# EAGLE library part DD1B030HA1 (library brandonsmith)
DDP1B030HA1 30 Pin Connector
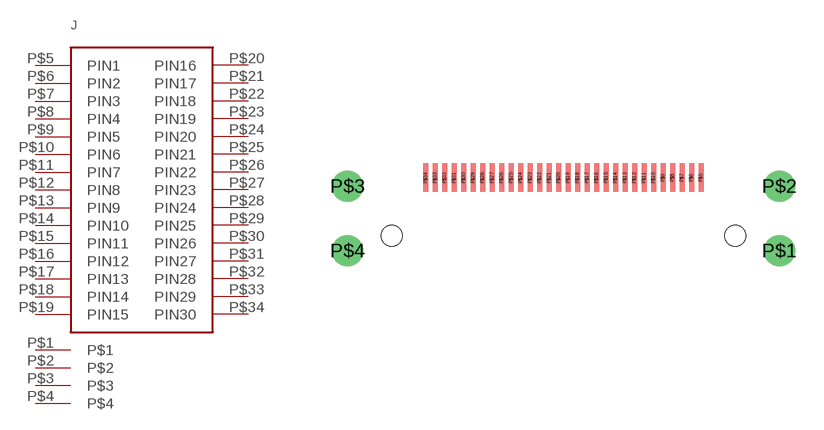
[diagram p0: symbol with the pads of DD1B030HA1; footprint DD1B030HA1]

Designator prefix J

## DD1B030HA1  [DD1B030HA1]
P$1  P$1
P$2  P$2
P$3  P$3
P$4  P$4
P$5  PIN1
P$6  PIN2
P$7  PIN3
P$8  PIN4
P$9  PIN5
P$10  PIN6
P$11  PIN7
P$12  PIN8
P$13  PIN9
P$14  PIN10
P$15  PIN11
P$16  PIN12
P$17  PIN13
P$18  PIN14
P$19  PIN15
P$20  PIN16
P$21  PIN17
P$22  PIN18
P$23  PIN19
P$24  PIN20
P$25  PIN21
P$26  PIN22
P$27  PIN23
P$28  PIN24
P$29  PIN25
P$30  PIN26
P$31  PIN27
P$32  PIN28
P$33  PIN29
P$34  PIN30

## Footprint DD1B030HA1 (pad centres in mm)
drill 1.1: P$1 2.325,-0.8; P$2 2.325,2.6; P$3 -20.425,2.6; P$4 -20.425,-0.8
smd 0.26 x 1.5: P$5 -1.8,3.05; P$6 -2.3,3.05; P$7 -2.8,3.05; P$8 -3.3,3.05; P$9 -3.8,3.05; P$10 -4.3,3.05; P$11 -4.8,3.05; P$12 -5.3,3.05; P$13 -5.8,3.05; P$14 -6.3,3.05; P$15 -6.8,3.05; P$16 -7.3,3.05; P$17 -7.8,3.05; P$18 -8.3,3.05; P$19 -8.8,3.05; P$20 -9.3,3.05; P$21 -9.8,3.05; P$22 -10.3,3.05; P$23 -10.8,3.05; P$24 -11.3,3.05; P$25 -11.8,3.05; P$26 -12.3,3.05; P$27 -12.8,3.05; P$28 -13.3,3.05; P$29 -13.8,3.05; P$30 -14.3,3.05; P$31 -14.8,3.05; P$32 -15.3,3.05; P$33 -15.8,3.05; P$34 -16.3,3.05
hole 1.1 at 0,0
hole 1.1 at -18.1,0